# Altium footprint library IND_CHIP_0603_PAN.PcbLib: 1 footprints
Each footprint in its own frame and in the unit in brackets; x right, y up, seen from the top. Pads: shape width x height; smd on the part's side, far side on the other; paste and mask are expansions set on the pad; w line width, h text height; cw(c..) or ccw(c..) is an arc to the next point about the centre after c.
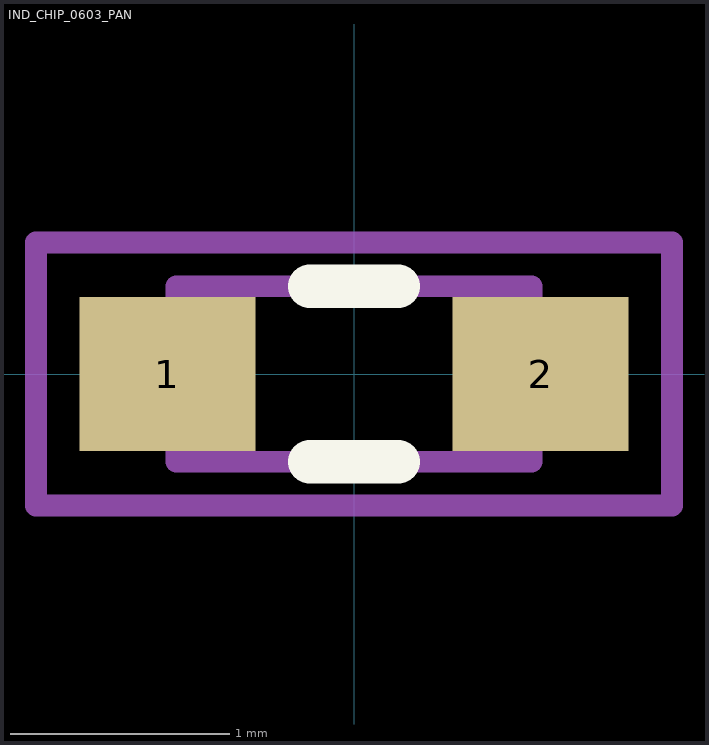
[diagram p0: the footprint, top view; thin cyan lines are the x and y axes]

## IND_CHIP_0603_PAN [mm]
height 1
pads (2):
  rect 0.8x0.7 smd: 1(-0.85,0) 2(0.85,0)
Top Overlay:
  lines w0.2: -0.2,-0.4 0.2,-0.4 ; -0.2,0.4 0.2,0.4
Mechanical 13:
  lines w0.1: -0.81,-0.4 -0.81,0.4 0.81,0.4 0.81,-0.4 -0.81,-0.4
Mechanical 15:
  lines w0.1: -1.45,-0.6 -1.45,0.6 1.45,0.6 1.45,-0.6 -1.45,-0.6
3D body "ind_chip_0603_pan.stp": height 0.8, standoff 0, extent -0.8,-0.4 0.8,0.4